# EAGLE library part ATMEGA328 (library ATMEL)
Atmega328/P The Atmel picoPower ATmega328/P is a low-power CMOS 8-bit microcontroller based on the AVR ® enhanced RISC architecture. By executing powerful instructions in a single clock cycle, the ATmega328/P achieves throughputs close to 1MIPS per MHz. This empowers system designer to optimize the device for power consumption versus processing speed. Location: MCU/ATMEL
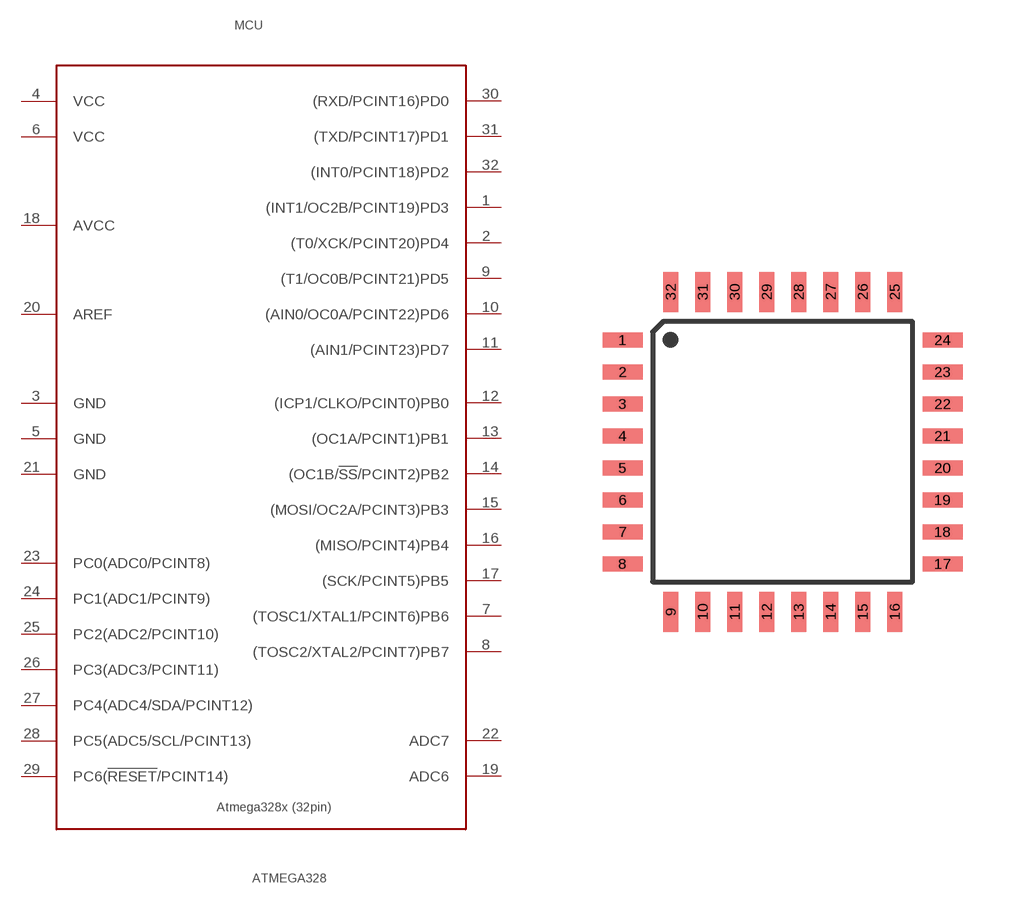
[diagram p2: symbol with the pads of TQFP-32; footprint TQFP-32]

Designator prefix MCU

## ATMEGA328SMD  [TQFP-32]
1  (INT1/OC2B/PCINT19)PD3
2  (T0/XCK/PCINT20)PD4
3  GND  pwr
4  VCC  pwr
5  GND  pwr
6  VCC  pwr
7  (TOSC1/XTAL1/PCINT6)PB6
8  (TOSC2/XTAL2/PCINT7)PB7
9  (T1/OC0B/PCINT21)PD5
10  (AIN0/OC0A/PCINT22)PD6
11  (AIN1/PCINT23)PD7
12  (ICP1/CLKO/PCINT0)PB0
13  (OC1A/PCINT1)PB1
14  (OC1B/!SS!/PCINT2)PB2
15  (MOSI/OC2A/PCINT3)PB3
16  (MISO/PCINT4)PB4
17  (SCK/PCINT5)PB5
18  AVCC  sup
19  ADC6
20  AREF  in
21  GND  pwr
22  ADC7
23  PC0(ADC0/PCINT8)
24  PC1(ADC1/PCINT9)
25  PC2(ADC2/PCINT10)
26  PC3(ADC3/PCINT11)
27  PC4(ADC4/SDA/PCINT12)
28  PC5(ADC5/SCL/PCINT13)
29  PC6(!RESET!/PCINT14)
30  (RXD/PCINT16)PD0
31  (TXD/PCINT17)PD1
32  (INT0/PCINT18)PD2

## Footprint TQFP-32 (pad centres in mm)
smd 1 x 0.375: 1 -4,2.8; 2 -4,2; 3 -4,1.2; 4 -4,0.4; 5 -4,-0.4; 6 -4,-1.2; 7 -4,-2; 8 -4,-2.8; 17 4,-2.8; 18 4,-2; 19 4,-1.2; 20 4,-0.4; 21 4,0.4; 22 4,1.2; 23 4,2; 24 4,2.8
smd 0.375 x 1: 9 -2.8,-4; 10 -2,-4; 11 -1.2,-4; 12 -0.4,-4; 13 0.4,-4; 14 1.2,-4; 15 2,-4; 16 2.8,-4; 25 2.8,4; 26 2,4; 27 1.2,4; 28 0.4,4; 29 -0.4,4; 30 -1.2,4; 31 -2,4; 32 -2.8,4